# EAGLE library part 1LINE_SOCKET_2MM_6 (library my_con)
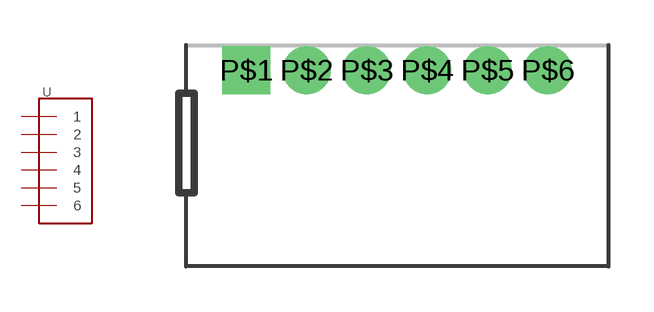
[diagram p4: symbol with the pads of 1LINE_SOCKET_2MM_6; footprint 1LINE_SOCKET_2MM_6]

Designator prefix -

## 1LINE_SOCKET_2MM_6  [1LINE_SOCKET_2MM_6]
P$1  1  pas
P$2  2  pas
P$3  3  pas
P$4  4  pas
P$5  5  pas
P$6  6  pas

## Footprint 1LINE_SOCKET_2MM_6 (pad centres in mm)
drill 0.85 pad 1.587 square: P$1 -5,1.27
drill 0.85 pad 1.587: P$2 -3,1.27; P$3 -1,1.27; P$4 1,1.27; P$5 3,1.27; P$6 5,1.27